# EAGLE library part ISL43485IB (library alvie)
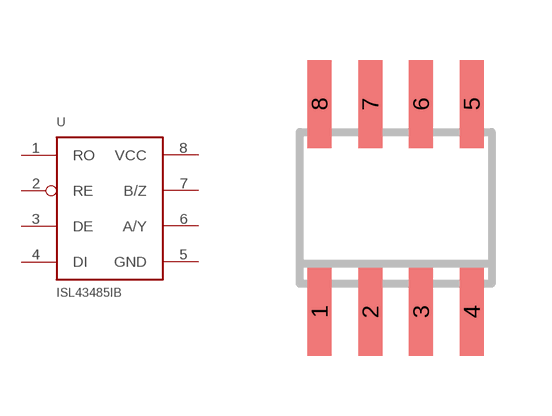
[diagram p29: symbol with the pads of SOIC8; footprint SOIC8]

Designator prefix -

## ISL43485IB  [SOIC8]
1  RO  out
2  RE  in
3  DE  in
4  DI  in
5  GND  pwr
6  A/Y
7  B/Z
8  VCC  pwr

## Footprint SOIC8 (pad centres in mm)
smd 0.6 x 2.2: 1 -1.905,-2.6; 2 -0.635,-2.6; 3 0.635,-2.6; 4 1.905,-2.6; 5 1.905,2.6; 6 0.635,2.6; 7 -0.635,2.6; 8 -1.905,2.6